# Altium footprint library Wampler.PcbLib: 50 footprints (part 3 of 4)
Each footprint in its own frame and in the unit in brackets; x right, y up, seen from the top. Pads: shape width x height; smd on the part's side, far side on the other; paste and mask are expansions set on the pad; w line width, h text height; cw(c..) or ccw(c..) is an arc to the next point about the centre after c.
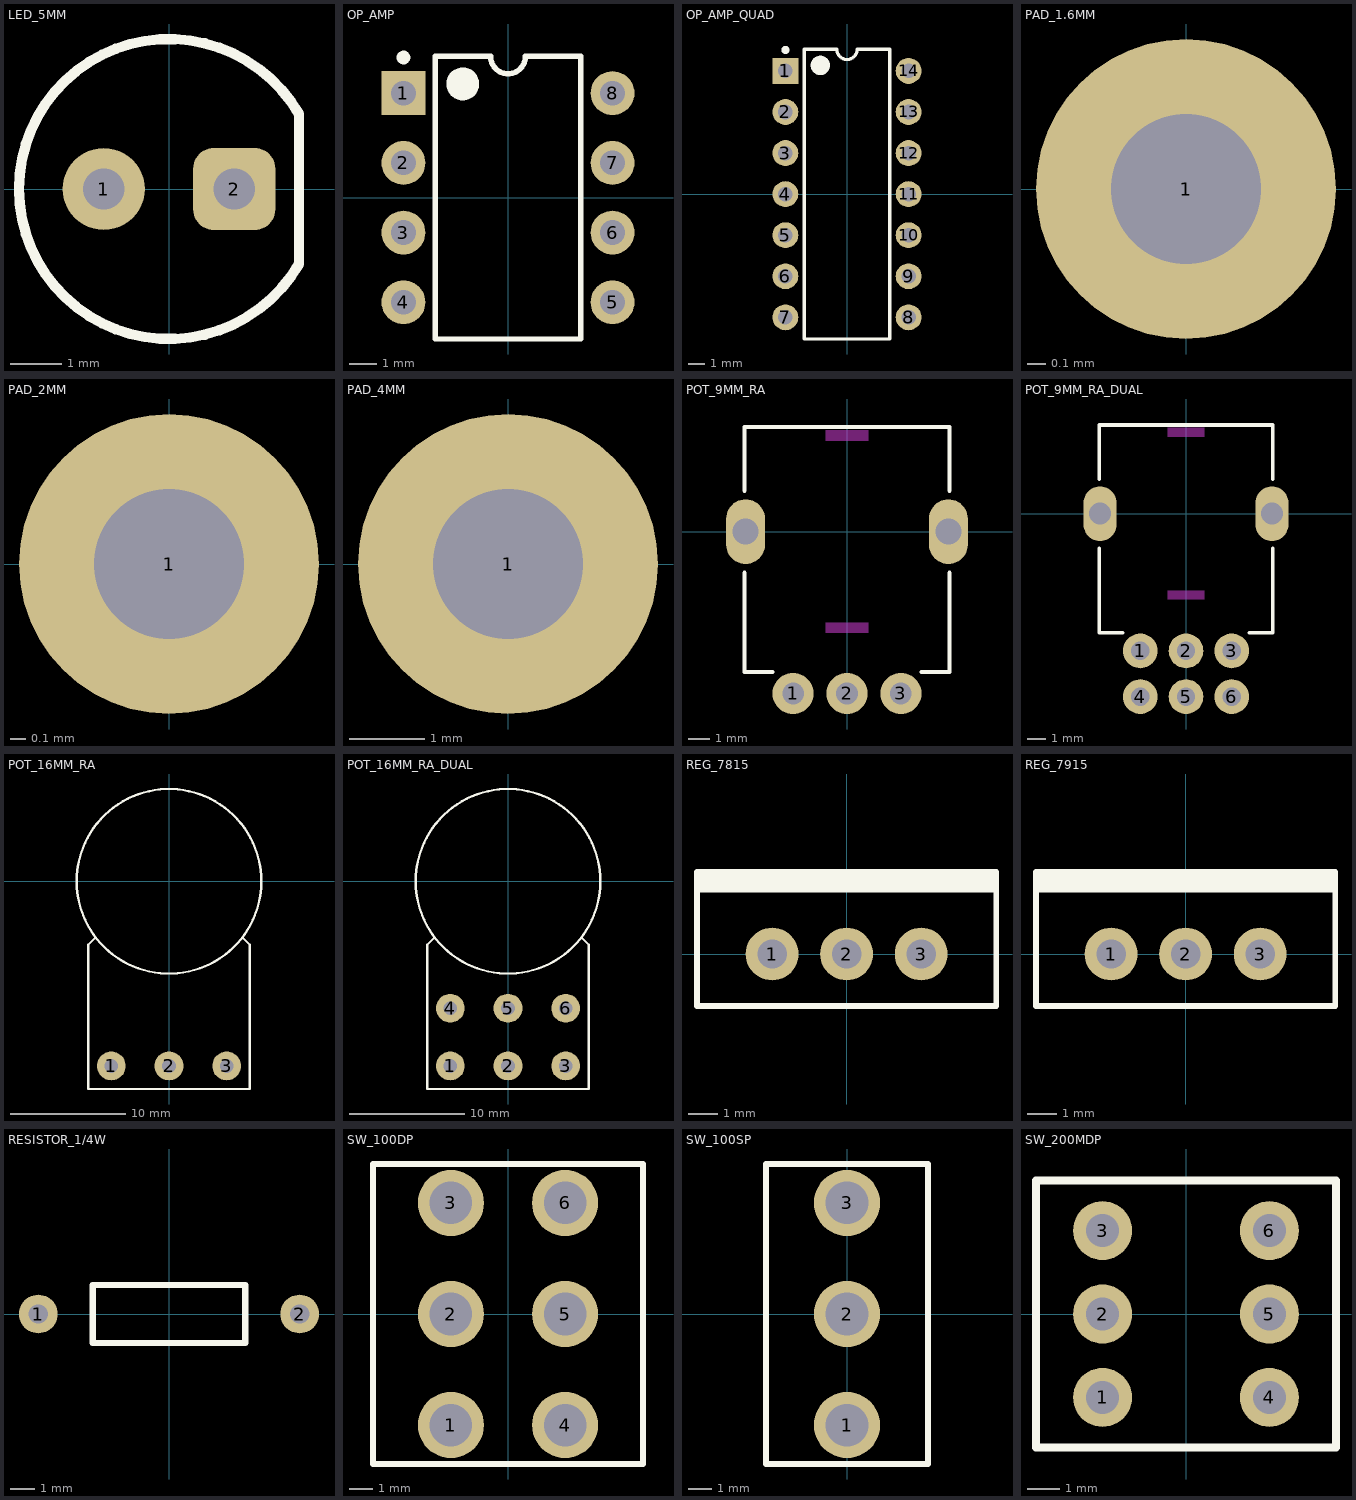
[diagram p2: the footprints below, top view; thin cyan lines are the x and y axes]

## LED_5MM [mm]
pads (2):
  round 1.6 hole 0.8: 1(-1.27,0)
  rrect50% 1.6x1.6 hole 0.8: 2(1.27,0)
Top Overlay:
  lines w0.2: 2.529,-1.46 cw(c0,0) 2.529,1.46 2.529,-1.46
3D body "LED 5mm red.step": height 8.7, standoff -25, extent -2.888,-2.898 2.5,2.898

## OP_AMP [mm] "DIP; 8 Leads; Row Spacing 7.62 mm; Pitch 2.54 mm"
height 5.08
pads (8):
  rect 1.6x1.6 hole 0.9: 1(-3.81,3.81)
  round 1.6 hole 0.9: 2(-3.81,1.27) 3(-3.81,-1.27) 4(-3.81,-3.81) 5(3.81,-3.81) 6(3.81,-1.27) 7(3.81,1.27) 8(3.81,3.81)
Top Overlay:
  circle w0.25: c-3.81,5.11 r0.125
  circle w0.6: c-1.65,4.15 r0.3
  lines w0.2: -2.65,-5.15 -2.65,5.15 -0.635,5.15 ccw(c0,5.15) 0.635,5.15 2.65,5.15 2.65,-5.15 -2.65,-5.15
3D body "TL072CP.stp": height 5.33, standoff -3.5, extent -3.942,-4.902 3.942,4.902

## OP_AMP_QUAD [mm] "DIP; 16 Leads; Row Spacing 7.62 mm; Pitch 2.54 mm"
height 5.08
pads (14):
  rect 1.6x1.6 hole 0.9: 1(-3.81,7.62)
  round 1.6 hole 0.9: 2(-3.81,5.08) 3(-3.81,2.54) 4(-3.81,0) 5(-3.81,-2.54) 6(-3.81,-5.08) 7(-3.81,-7.62) 8(3.81,-7.62) 9(3.81,-5.08) 10(3.81,-2.54) 11(3.81,0) 12(3.81,2.54) 13(3.81,5.08) 14(3.81,7.62)
Top Overlay:
  circle w0.6: c-1.65,7.96 r0.3
  circle w0.25: c-3.81,8.92 r0.125
  lines w0.2: -2.65,-8.96 2.65,-8.96 2.65,8.96 0.635,8.96 cw(c0,8.96) -0.635,8.96 -2.65,8.96 -2.65,-8.96
3D body "DIP14.STEP": height 4.7, standoff -2.6, extent -3.935,-8.71 3.935,8.71

## PAD_1.6MM [mm]
pads (1):
  round 1.6 hole 0.8: 1(0,0)

## PAD_2MM [mm]
pads (1):
  round 2 hole 1: 1(0,0)

## PAD_4MM [mm]
pads (1):
  round 4 hole 2: 1(0,0)

## POT_9MM_RA [mm]
pads (5):
  round 1.9 hole 1: 1(-2.5,-7.5) 2(0,-7.5) 3(2.5,-7.5)
  oval 1.8x3 hole 1.2: ""(-4.7,0) ""(4.7,0)
Top Layer keep-out:
  region: -1,-4.2 -1,-4.7 1,-4.7 1,-4.2
  region: -1,4.7 -1,4.2 1,4.2 1,4.7
Top Overlay:
  lines w0.2: -4.75,-1.9 -4.75,-6.5 -3.45,-6.5 ; -4.75,1.9 -4.75,4.85 4.75,4.85 4.75,1.9 ; 3.45,-6.5 4.75,-6.5 4.75,-1.9
3D body "RD901F-40-15R1.step": height 25, standoff -3.5, extent -5.854,-7.65 5.854,4.85

## POT_9MM_RA_DUAL [mm]
height 6
pads (8):
  round 1.9 hole 1: 1(-2.5,-7.5) 2(0,-7.5) 3(2.5,-7.5) 4(-2.5,-10) 5(0,-10) 6(2.5,-10)
  oval 1.8x3 hole 1.2: ""(-4.7,0) ""(4.7,0)
Top Layer keep-out:
  region: -1,-4.2 -1,-4.7 1,-4.7 1,-4.2
  region: -1,4.7 -1,4.2 1,4.2 1,4.7
Top Overlay:
  lines w0.2: -4.75,-1.9 -4.75,-6.5 -3.45,-6.5 ; -4.75,1.9 -4.75,4.85 4.75,4.85 4.75,1.9 ; 3.45,-6.5 4.75,-6.5 4.75,-1.9
3D body "RD902F-40-00D.stp": height 25, standoff -3.5, extent -5.854,-10.15 5.854,4.85

## POT_16MM_RA [mm]
height 6
pads (3):
  round 2.5 hole 1.2: 1(-5,-16) 2(0,-16) 3(5,-16)
Top Overlay:
  circle w0.2: c0,0 r8
  lines w0.2: -6.4,-4.9 -7,-5.5 -7,-18 7,-18 7,-5.5 6.4,-4.9
3D body "MONO.STEP": height 25.68, standoff -4.9, extent -7.874,-16.232 7.874,7.878

## POT_16MM_RA_DUAL [mm]
height 6
pads (6):
  round 2.5 hole 1.2: 1(-5,-16) 2(0,-16) 3(5,-16) 4(-5,-11) 5(0,-11) 6(5,-11)
Top Overlay:
  circle w0.2: c0,0 r8
  lines w0.2: -6.4,-4.9 -7,-5.5 -7,-18 7,-18 7,-5.5 6.4,-4.9
3D body "STEREO2.STEP": height 27.58, standoff -3, extent -7.874,-16.232 7.874,7.888

## REG_7815 [mm]
pads (3):
  round 1.8 hole 1: 1(-2.54,0) 2(0,0) 3(2.54,0)
Top Overlay:
  rectangle: -5.1,2.1 5.125,2.8
  lines w0.2: -5.1,-1.775 -5.1,2.8 5.1,2.8 5.1,-1.775 -5.1,-1.775
3D body "NDE0003B.stp": height 18.74, standoff -9.91, extent -5.08,-1.772 5.08,2.8

## REG_7915 [mm]
pads (3):
  round 1.8 hole 1: 1(-2.54,0) 2(0,0) 3(2.54,0)
Top Overlay:
  rectangle: -5.1,2.1 5.125,2.8
  lines w0.2: -5.1,-1.775 5.1,-1.775 5.1,2.8 -5.1,2.8 -5.1,-1.775
3D body "NDE0003B.stp": height 18.74, standoff -9.91, extent -5.08,-1.772 5.08,2.8

## RESISTOR_1/4W [mm]
pads (2):
  round 1.6 hole 0.8: 1(-5.4,0) 2(5.4,0)
Top Overlay:
  lines w0.254: -3.15,-1.2 3.15,-1.2 3.15,1.2 -3.15,1.2 -3.15,-1.2
3D body "axial_resistor_L6.8_D2.6_PinD0.6_Pitch10.8_light_blue.step": height 2.7, standoff -2.9, extent -5.7,-1.295 5.7,1.293

## SW_100DP [mm]
pads (6):
  round 2.8 hole 1.8: 1(-2.415,-4.7) 2(-2.415,0) 3(-2.415,4.7) 4(2.415,-4.7) 5(2.415,0) 6(2.415,4.7)
Top Overlay:
  lines w0.254: -5.715,-6.35 -5.715,6.35 5.715,6.35 5.715,-6.35 -5.715,-6.35
3D body "100DPxT2B1M2xE.stp": height 24.34, standoff -5.1, extent -5.715,-6.35 5.715,6.35

## SW_100SP [mm]
pads (3):
  round 2.8 hole 1.8: 1(0,-4.7) 2(0,0) 3(0,4.7)
Top Overlay:
  lines w0.254: -3.43,-6.35 -3.43,6.35 3.43,6.35 3.43,-6.35 -3.43,-6.35
3D body "100SPxT2B1M2xE.stp": height 23.71, standoff -5.6, extent -3.43,-6.35 3.43,6.35

## SW_200MDP [mm]
pads (6):
  round 1.8 hole 1: 1(-2.54,-2.54) 2(-2.54,0) 3(-2.54,2.54) 4(2.54,-2.54) 5(2.54,0) 6(2.54,2.54)
Top Overlay:
  lines w0.254: -4.57,-4.065 4.57,-4.065 4.57,4.065 -4.57,4.065 -4.57,-4.065
3D body "200MDPxT2B1M2xx.stp": height 19.81, standoff -3.29, extent -4.57,-4.065 4.57,4.065